# Altium footprint library 2021-07-08_03-00-06.PcbLib: 3 footprints
Each footprint in its own frame and in the unit in brackets; x right, y up, seen from the top. Pads: shape width x height; smd on the part's side, far side on the other; paste and mask are expansions set on the pad; w line width, h text height; cw(c..) or ccw(c..) is an arc to the next point about the centre after c.
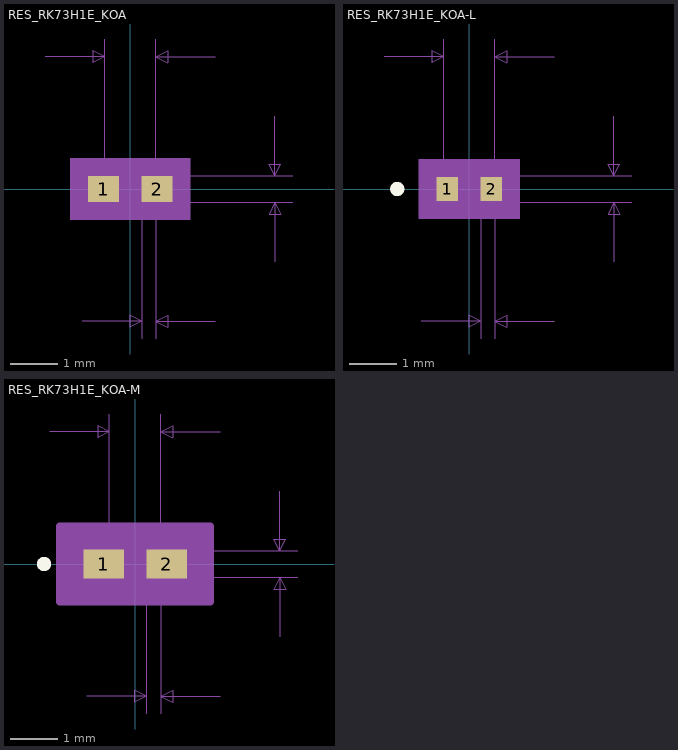
[diagram p0: the footprints below, top view; thin cyan lines are the x and y axes]

## RES_RK73H1E_KOA [mil]
pads (2):
  rect 26x22 smd paste+0 mask+0: 1(-22.5,0) 2(22.5,0)
Mechanical 5:
  region: 50.5,-26 -50.5,-26 -50.5,26 50.5,26
Mechanical 7:
  lines w1: -71.5,111 -21.5,111 ; -40.5,-111 9.5,-111 ; -21.5,0 -21.5,126 ; 0,-11 136.5,-11 ; 0,11 136.5,11 ; 9.5,-126 9.5,0 ; 21.5,-126 21.5,0 21.5,126 ; 71.5,-111 21.5,-111 ; 71.5,111 21.5,111 ; 121.5,-61 121.5,-11 ; 121.5,61 121.5,11 ; -21.5,111 -31.5,116 -31.5,106 -21.5,111 ; 9.5,-111 -0.5,-106 -0.5,-116 9.5,-111 ; 21.5,-111 31.5,-106 31.5,-116 21.5,-111 ; 21.5,111 31.5,116 31.5,106 21.5,111 ; 121.5,-11 116.5,-21 126.5,-21 121.5,-11 ; 121.5,11 116.5,21 126.5,21 121.5,11
  text "Default Padstyle: RX26Y22D0T" at -350,-281 h50
  text "Alternate 1 Padstyle: OX60Y90D30P" at -412.5,-381 h50
  text "Alternate 2 Padstyle: OX90Y60D30P" at -412.5,-481 h50
  text "0.022in/0.559mm" at 141.5,-12.5 h25
  text "0.043in/1.092mm" at -93.75,131 h25
  text "0.012in/0.305mm" at -78.25,-156 h25
Mechanical 13:
  circle w0: c-17.5,0 r0
  lines w1: -21.5,-11 -21.5,11 ; -21.5,-11 -9.5,-11 -9.5,11 -21.5,11 ; -21.5,-11 21.5,-11 ; -21.5,-11 -21.5,11 ; -21.5,11 21.5,11 ; 21.5,-11 9.5,-11 9.5,11 21.5,11 ; 21.5,-11 21.5,11 ; 21.5,-11 21.5,11
Mechanical 15:
  region: 45.5,-21 -45.5,-21 -45.5,21 45.5,21
  lines w6: -45.5,-21 -45.5,21 45.5,21 45.5,-21 -45.5,-21
3D body: height 10, standoff 0, extent 0,0 10,10

## RES_RK73H1E_KOA-L [mil]
pads (2):
  rect 18x20 smd paste+0 mask+0: 1(-18.5,0) 2(18.5,0)
Top Overlay:
  circle w6: c-60.5,0 r3
Mechanical 5:
  region: 42.5,-25 -42.5,-25 -42.5,25 42.5,25
Mechanical 7:
  lines w1: -71.5,111 -21.5,111 ; -40.5,-111 9.5,-111 ; -21.5,0 -21.5,126 ; 0,-11 136.5,-11 ; 0,11 136.5,11 ; 9.5,-126 9.5,0 ; 21.5,-126 21.5,0 21.5,126 ; 71.5,-111 21.5,-111 ; 71.5,111 21.5,111 ; 121.5,-61 121.5,-11 ; 121.5,61 121.5,11 ; -21.5,111 -31.5,116 -31.5,106 -21.5,111 ; 9.5,-111 -0.5,-106 -0.5,-116 9.5,-111 ; 21.5,-111 31.5,-106 31.5,-116 21.5,-111 ; 21.5,111 31.5,116 31.5,106 21.5,111 ; 121.5,-11 116.5,-21 126.5,-21 121.5,-11 ; 121.5,11 116.5,21 126.5,21 121.5,11
  text "Default Padstyle: RX18Y20D0T" at -350,-280 h50
  text "Alternate 1 Padstyle: OX60Y90D30P" at -412.5,-380 h50
  text "Alternate 2 Padstyle: OX90Y60D30P" at -412.5,-480 h50
  text "0.022in/0.559mm" at 141.5,-12.5 h25
  text "0.043in/1.092mm" at -93.75,131 h25
  text "0.012in/0.305mm" at -78.25,-156 h25
Mechanical 13:
  circle w0: c-13.5,0 r3
  lines w1: -21.5,-11 -21.5,11 ; -21.5,-11 -9.5,-11 -9.5,11 -21.5,11 ; -21.5,-11 21.5,-11 ; -21.5,-11 -21.5,11 ; -21.5,11 21.5,11 ; 21.5,-11 9.5,-11 9.5,11 21.5,11 ; 21.5,-11 21.5,11 ; 21.5,-11 21.5,11
Mechanical 15:
  region: 31.5,-14 -31.5,-14 -31.5,14 31.5,14
  lines w6: -31.5,-14 -31.5,14 31.5,14 31.5,-14 -31.5,-14
3D body: height 10, standoff 0, extent 0,0 10,10

## RES_RK73H1E_KOA-M [mil]
pads (2):
  rect 34x24 smd paste+0 mask+0: 1(-26.5,0) 2(26.5,0)
Top Overlay:
  circle w6: c-76.5,0 r3
Mechanical 5:
  region: 58.5,-27 -58.5,-27 -58.5,27 58.5,27
Mechanical 7:
  lines w1: -71.5,111 -21.5,111 ; -40.5,-111 9.5,-111 ; -21.5,0 -21.5,126 ; 0,-11 136.5,-11 ; 0,11 136.5,11 ; 9.5,-126 9.5,0 ; 21.5,-126 21.5,0 21.5,126 ; 71.5,-111 21.5,-111 ; 71.5,111 21.5,111 ; 121.5,-61 121.5,-11 ; 121.5,61 121.5,11 ; -21.5,111 -31.5,116 -31.5,106 -21.5,111 ; 9.5,-111 -0.5,-106 -0.5,-116 9.5,-111 ; 21.5,-111 31.5,-106 31.5,-116 21.5,-111 ; 21.5,111 31.5,116 31.5,106 21.5,111 ; 121.5,-11 116.5,-21 126.5,-21 121.5,-11 ; 121.5,11 116.5,21 126.5,21 121.5,11
  text "Default Padstyle: RX34Y24D0T" at -350,-282 h50
  text "Alternate 1 Padstyle: OX60Y90D30P" at -412.5,-382 h50
  text "Alternate 2 Padstyle: OX90Y60D30P" at -412.5,-482 h50
  text "0.022in/0.559mm" at 141.5,-12.5 h25
  text "0.043in/1.092mm" at -93.75,131 h25
  text "0.012in/0.305mm" at -78.25,-156 h25
Mechanical 13:
  circle w0: c-21.5,0 r3
  lines w1: -21.5,-11 -21.5,11 ; -21.5,-11 -9.5,-11 -9.5,11 -21.5,11 ; -21.5,-11 21.5,-11 ; -21.5,-11 -21.5,11 ; -21.5,11 21.5,11 ; 21.5,-11 9.5,-11 9.5,11 21.5,11 ; 21.5,-11 21.5,11 ; 21.5,-11 21.5,11
Mechanical 15:
  region: 63.5,-32 -63.5,-32 -63.5,32 63.5,32
  lines w6: -63.5,-32 -63.5,32 63.5,32 63.5,-32 -63.5,-32
3D body: height 10, standoff 0, extent 0,0 10,10